# Altium schematic symbol library molex_connectors.SchLib: 12 symbols
Pins are listed as number, name and electrical type; pins without a type are passive.

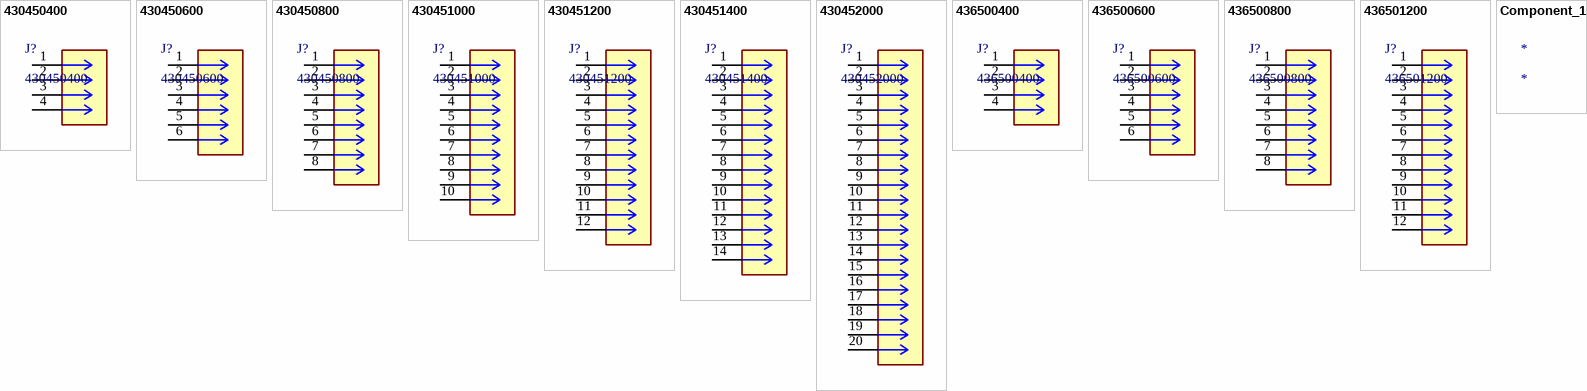
[diagram p0: symbols 430450400 to Component_1]

## 430450400
designator J?
Header 2 Row Right-Angle Snap-In Lock 4Pin Tin Plate SMT/Glow Wire Compatible; Mfr_Name: Molex Connector Corporation; Manufacturer: Molex; Manufacturer Part Number: 43045-0400; Number of Contacts: 4; Contact Resistance: 10mR; Max Voltage Rating (AC): 250V; Current Rating: 5A; Voltage Rating: 600V; Gender: Male; Max Voltage Rating (DC): 250.25kV; Pitch: 3mm; Row Spacing: 0.118inch; Approvals: UL,CSA,TUV; RefDes: RefDes; Type: Type; Supplier 1: Rs; Supplier Part Number 1: 2332955P; RoHS: Yes; Category: Headers and Wire Housings; Stock 1: 1243; Pricing 1: 5=311.042, 125=239.483, 500=194.095, 2500=152.386, 5000=142.436 (RUB); Mount: Through Hole; Contact Plating: Tin; Contact Material: Brass,Tin; Color: Black; Housing Color: Black; Housing Material: Thermoplastic; Material: Polyester; Min Operating Temperature: -40°C; Max Operating Temperature: 105°C; Number of Rows: 2; Termination: Solder; Packaging: Tray; Fastening Type: Ramp; Number of Positions: 4; Orientation: Right Angle; Contact Gender: Male; Series: Micro-Fit 3.0™ 43045; Contact Type: Male Pin; Number of Circuits: 4; Number of Poles: 4; Voltage Rating (AC): 250V; Working Voltage: 250V; Length: 10.15mm; Lead Pitch: 3mm; Depth: 12.2mm; Radiation Hardening: No; Flammability Rating: UL94 V-0; RoHS Compliant: Yes; Reach SVHC Compliant: Unknown; ComponentLink1URL: https://datasheet.ciiva.com/712/430450200-sd-712017.pdf?src-supplier=Digi-Key; ComponentLink1Description: https://datasheet.ciiva.com/712/430450200-sd-712017.pdf?src-supplier=Digi-Key; ComponentLink2URL: https://datasheet.ciiva.com/11746/0900766b80027348-11746988.pdf?src-supplier=Rs; ComponentLink2Description: https://datasheet.ciiva.com/11746/0900766b80027348-11746988.pdf?src-supplier=Rs; ComponentLink3URL: https://datasheet.ciiva.com/30193/145420430450400-pcb-headers-30193310.pdf?src-supplier=Onlinecomponents.com; ComponentLink3Description: https://datasheet.ciiva.com/30193/145420430450400-pcb-headers-30193310.pdf?src-supplier=Onlinecomponents.com
footprint 430450400-MFG
footprint 430450400
pins: 1, 2, 3, 4

## 430450600
designator J?
Connector Wire to Board Header 6 Position 3mm Solder Right Angle Thru-Hole Tray; Mfr_Name: Molex Connector Corporation; Manufacturer: Molex; Manufacturer Part Number: 43045-0600; Number of Contacts: 6; Contact Resistance: 10mR; Current Rating: 5A; Gender: Male; Voltage Rating (DC): 250V; Insulation Resistance: 1GR; Max Voltage Rating (DC): 250.25kV; Glow Wire Compliant: Compliant; Approvals: UL,CSA,TUV; RefDes: RefDes; Type: Type; Supplier 1: Rs; Supplier Part Number 1: 2332961P; RoHS: Yes; Category: Headers and Wire Housings; Stock 1: 8530; Pricing 1: 5=386.417, 100=332.987, 375=282.01, 1500=231.987, 3000=183.872 (RUB); Mount: Through Hole; Case/Package: SMC; Contact Plating: Tin; Contact Material: Brass,Tin; Housing Color: Black; Housing Material: Thermoplastic; Color: Black; Material: Polyester; Min Operating Temperature: -40°C; Max Operating Temperature: 105°C; Number of Rows: 2; Packaging: Tray; Termination: Solder; Orientation: Right Angle; Number of Positions: 6; Number of Circuits: 6; Voltage Rating: 250V; Package Quantity: 1728; Max Current Rating: 5A; Series: 43045; Diameter: 3mm; Length: 13.15mm; Height: 8.77mm; Pitch: 3mm; Depth: 12.2mm; Row Spacing: 3mm; Radiation Hardening: No; Flammability Rating: UL94 V-0; Halogen Free: Low Halogen; Lead Free: Lead Free; RoHS Compliant: Yes; Reach SVHC Compliant: Unknown; ComponentLink1URL: https://datasheet.ciiva.com/30225/179470430450600-pcb-headers-30225817.pdf?src-supplier=Onlinecomponents.com; ComponentLink1Description: https://datasheet.ciiva.com/30225/179470430450600-pcb-headers-30225817.pdf?src-supplier=Onlinecomponents.com; ComponentLink2URL: https://datasheet.ciiva.com/19461/883405-19461156.pdf?src-supplier=Jameco; ComponentLink2Description: https://datasheet.ciiva.com/19461/883405-19461156.pdf?src-supplier=Jameco; ComponentLink3URL: https://datasheet.ciiva.com/5147/0430450600-pcb-headers-143151-5147470.pdf?src-supplier=Mouser; ComponentLink3Description: https://datasheet.ciiva.com/5147/0430450600-pcb-headers-143151-5147470.pdf?src-supplier=Mouser; ComponentLink4URL: https://datasheet.ciiva.com/11747/0900766b80027348-11747530.pdf?src-supplier=Rs; ComponentLink4Description: https://datasheet.ciiva.com/11747/0900766b80027348-11747530.pdf?src-supplier=Rs; ComponentLink5URL: https://datasheet.ciiva.com/14155/04402310-14155205.pdf?src-supplier=Distrelec; ComponentLink5Description: https://datasheet.ciiva.com/14155/04402310-14155205.pdf?src-supplier=Distrelec; ComponentLink6URL: https://datasheet.ciiva.com/1443/1850013-1443456.pdf?src-supplier=Element14; ComponentLink6Description: https://datasheet.ciiva.com/1443/1850013-1443456.pdf?src-supplier=Element14; ComponentLink7URL: https://datasheet.ciiva.com/9468/0430450600-pcb-headers-9468489.pdf?src-supplier=Avnet; ComponentLink7Description: https://datasheet.ciiva.com/9468/0430450600-pcb-headers-9468489.pdf?src-supplier=Avnet
footprint 430450600-MFG
footprint 430450600
pins: 1, 2, 3, 4, 5, 6

## 430450800
designator J?
Connector Wire to Board Header 8 Position 3mm Solder Right Angle Thru-Hole Tray; Mfr_Name: Molex Connector Corporation; Manufacturer: Molex; Manufacturer Part Number: 43045-0800; Contact Resistance: 10mR; Number of Contacts: 8; Max Voltage Rating (DC): 250.25kV; Current Rating: 5A; Voltage Rating (AC): 250V; Voltage Rating: 600V; Gender: Male; Insulation Resistance: 1GR; Approvals: UL,CSA,TUV; Glow Wire Compliant: Compliant; RefDes: RefDes; Type: Type; Supplier 1: Rs; Supplier Part Number 1: 2332977; RoHS: Yes; Category: Headers and Wire Housings; Stock 1: 1875; Pricing 1: 5=518.222, 50=445.981, 100=376.467, 250=308.18, 500=242.755 (RUB); Mount: Through Hole; Case/Package: SMC; Contact Plating: Tin; Contact Material: Brass,Tin; Housing Color: Black; Housing Material: Thermoplastic; Color: Black; Material: Polyester; Min Operating Temperature: -40°C; Max Operating Temperature: 105°C; Number of Rows: 2; Termination: Solder; Packaging: Tray; Orientation: Right Angle; Number of Poles: 8; Package Quantity: 1440; Max Current Rating: 5A; Number of Positions: 8; Number of Circuits: 8; Working Voltage: 250V; Voltage Rating (DC): 250V; Series: 43045; Diameter: 3mm; Length: 16.15mm; Height: 8.77mm; Pitch: 3mm; Depth: 12.2mm; Row Spacing: 3mm; Radiation Hardening: No; Flammability Rating: UL94 V-0; RoHS Compliant: Yes; Halogen Free: Low Halogen; Lead Free: Lead Free; Reach SVHC Compliant: Unknown
footprint 430450800-MFG
footprint 430450800
pins: 1, 2, 3, 4, 5, 6, 7, 8

## 430451000
designator J?
Connector Wire to Board Header 10 Position 3mm Solder Right Angle Thru-Hole Tray; Mfr_Name: Molex Connector Corporation; Manufacturer: Molex; Manufacturer Part Number: 43045-1000; Connector Type: Power,Rectangular; Number of Positions: 10; Contact Resistance: 10mR; Gender: Male; Current Rating: 5A; Voltage Rating: 250V; Max Voltage Rating (DC): 250.25kV; Insulation Resistance: 1GR; Approvals: UL,CSA,TUV; Glow Wire Compliant: Compliant; RefDes: RefDes; Type: Type; Supplier 1: Rs; Supplier Part Number 1: 2332983P; RoHS: Yes; Category: Headers and Wire Housings; Stock 1: 5218; Pricing 1: 5=580.921, 100=444.891, 375=393.914, 1500=305.726, 3000=282.01 (RUB); Mount: Through Hole,PCB; Contact Plating: Tin; Color: Black; Contact Material: Brass,Tin; Housing Color: Black; Housing Material: Thermoplastic; Material: Polyester; Min Operating Temperature: -40°C; Max Operating Temperature: 105°C; Number of Rows: 2; Termination: Solder; Packaging: Tray; Package Quantity: 1224; Number of Contacts: 10; Series: 43045; Orientation: Right Angle; Max Current Rating: 5A; Number of Poles: 10; Voltage Rating (AC): 250V; Number of Circuits: 10; Working Voltage: 250V; Voltage Rating (DC): 250V; Diameter: 3mm; Length: 19.15mm; Height: 8.77mm; Pitch: 3mm; Depth: 12.2mm; Row Spacing: 3mm; Radiation Hardening: No; RoHS Compliant: Yes; Flammability Rating: UL94 V-0; Lead Free: Lead Free; Halogen Free: Low Halogen; Reach SVHC Compliant: Unknown; ComponentLink1URL: https://datasheet.ciiva.com/5150/0430451000-pcb-headers-143006-5150145.pdf?src-supplier=Mouser; ComponentLink1Description: https://datasheet.ciiva.com/5150/0430451000-pcb-headers-143006-5150145.pdf?src-supplier=Mouser; ComponentLink2URL: https://datasheet.ciiva.com/19461/883595-19461109.pdf?src-supplier=Jameco; ComponentLink2Description: https://datasheet.ciiva.com/19461/883595-19461109.pdf?src-supplier=Jameco; ComponentLink3URL: https://datasheet.ciiva.com/30068/153980430451000-pcb-headers-30068060.pdf?src-supplier=Onlinecomponents.com; ComponentLink3Description: https://datasheet.ciiva.com/30068/153980430451000-pcb-headers-30068060.pdf?src-supplier=Onlinecomponents.com; ComponentLink4URL: https://datasheet.ciiva.com/11749/0900766b80027348-11749233.pdf?src-supplier=Rs; ComponentLink4Description: https://datasheet.ciiva.com/11749/0900766b80027348-11749233.pdf?src-supplier=Rs; ComponentLink5URL: https://datasheet.ciiva.com/14155/04402310-14155207.pdf?src-supplier=Distrelec; ComponentLink5Description: https://datasheet.ciiva.com/14155/04402310-14155207.pdf?src-supplier=Distrelec; ComponentLink6URL: https://datasheet.ciiva.com/18454/70090797-18454139.pdf?src-supplier=Allied+Electronics; ComponentLink6Description: https://datasheet.ciiva.com/18454/70090797-18454139.pdf?src-supplier=Allied+Electronics; ComponentLink7URL: https://datasheet.ciiva.com/9468/0430451000-pcb-headers-9468495.pdf?src-supplier=Avnet; ComponentLink7Description: https://datasheet.ciiva.com/9468/0430451000-pcb-headers-9468495.pdf?src-supplier=Avnet
footprint 430451000
footprint 430451000-MFG
pins: 1, 2, 3, 4, 5, 6, 7, 8, 9, 10

## 430451200
designator J?
Connector Wire to Board Header 12 Position 3mm Solder Right Angle Thru-Hole Tray; Manufacturer: Molex; Manufacturer Part Number: 43045-1200; Contact Resistance: 10mR; Number of Contacts: 12; Current Rating: 5A; Voltage Rating (AC): 250V; Voltage Rating: 600V; Gender: Male; Max Voltage Rating (DC): 250.25kV; Approvals: UL,CSA,TUV; Glow Wire Compliant: Compliant; Supplier 1: Rs; Supplier Part Number 1: 2332999P; RoHS: Yes; Category: Headers and Wire Housings; Stock 1: 1228; Pricing 1: 5=631.353, 100=496.141, 375=430.307, 1500=347.026 (RUB); Mount: Through Hole; Contact Plating: Tin; Contact Material: Brass,Tin; Housing Color: Black; Housing Material: Thermoplastic; Color: Black; Material: Polyester; Min Operating Temperature: -40°C; Max Operating Temperature: 105°C; Number of Rows: 2; Termination: Solder; Packaging: Tray; Orientation: Right Angle; Package Quantity: 1008; Number of Positions: 12; Series: 43045; Number of Poles: 12; Max Current Rating: 5A; Number of Circuits: 12; Working Voltage: 250V; Diameter: 3mm; Length: 22.15mm; Height: 8.77mm; Pitch: 3mm; Depth: 12.2mm; Lead Pitch: 3mm; Row Spacing: 3mm; Radiation Hardening: No; Flammability Rating: UL94 V-0; RoHS Compliant: Yes; Halogen Free: Low Halogen; ComponentLink1URL: https://datasheet.ciiva.com/19462/883704-19462215.pdf?src-supplier=Jameco; ComponentLink1Description: https://datasheet.ciiva.com/19462/883704-19462215.pdf?src-supplier=Jameco; ComponentLink2URL: https://datasheet.ciiva.com/5147/0430451200-pcb-headers-228589-5147732.pdf?src-supplier=Mouser; ComponentLink2Description: https://datasheet.ciiva.com/5147/0430451200-pcb-headers-228589-5147732.pdf?src-supplier=Mouser; ComponentLink3URL: https://datasheet.ciiva.com/30260/219840430451200-pcb-headers-30260443.pdf?src-supplier=Onlinecomponents.com; ComponentLink3Description: https://datasheet.ciiva.com/30260/219840430451200-pcb-headers-30260443.pdf?src-supplier=Onlinecomponents.com; ComponentLink4URL: https://datasheet.ciiva.com/10084/0430451200-pcb-headers-10084081.pdf?src-supplier=Avnet; ComponentLink4Description: https://datasheet.ciiva.com/10084/0430451200-pcb-headers-10084081.pdf?src-supplier=Avnet; ComponentLink5URL: https://datasheet.ciiva.com/11747/0900766b800bd7d2-11747867.pdf?src-supplier=Rs; ComponentLink5Description: https://datasheet.ciiva.com/11747/0900766b800bd7d2-11747867.pdf?src-supplier=Rs; ComponentLink6URL: https://datasheet.ciiva.com/14155/04402310-14155208.pdf?src-supplier=Distrelec; ComponentLink6Description: https://datasheet.ciiva.com/14155/04402310-14155208.pdf?src-supplier=Distrelec; ComponentLink7URL: https://datasheet.ciiva.com/16710/70090929-16710806.pdf?src-supplier=Allied+Electronics; ComponentLink7Description: https://datasheet.ciiva.com/16710/70090929-16710806.pdf?src-supplier=Allied+Electronics; ComponentLink8URL: https://datasheet.ciiva.com/1443/1785782-1443553.pdf?src-supplier=Element14; ComponentLink8Description: https://datasheet.ciiva.com/1443/1785782-1443553.pdf?src-supplier=Element14
footprint 430451200
footprint 430451200-MFG
pins: 1, 2, 3, 4, 5, 6, 7, 8, 9, 10, 11, 12

## 430451400
designator J?
Header, 2 Row, Right-Angle, Snap-In Lock, 14 Pin, SMT/Glow Wire Compatible, Tin Plate; Mfr_Name: Molex Connector Corporation; Manufacturer: Molex; Manufacturer Part Number: 43045-1400; Contact Resistance: 10mR; Number of Contacts: 14; Current Rating: 5A; Max Voltage Rating (DC): 250.25kV; Voltage Rating: 600V; Gender: Male; Voltage Rating (AC): 250V; Connector Type: Plug; Insulation Resistance: 1GR; Pitch: 3mm; Approvals: UL,CSA,TUV; Glow Wire Compliant: Compliant; RefDes: RefDes; Type: Type; Supplier 1: Rs; Supplier Part Number 1: 4227423; RoHS: Yes; Category: Headers and Wire Housings; Stock 1: 365; Pricing 1: 5=859.523, 100=677.15, 375=581.466, 1500=474.06 (RUB); Mount: Through Hole; Contact Plating: Tin; Contact Material: Brass,Tin; Housing Material: Thermoplastic; Color: Black; Material: Polyester; Min Operating Temperature: -40°C; Max Operating Temperature: 105°C; Termination: Solder; Number of Rows: 2; Packaging: Tray; Orientation: Right Angle; Package Quantity: 936; Series: Micro-Fit 3.0; Number of Poles: 14; Contact Gender: Male; Number of Positions: 14; Number of Circuits: 14; Working Voltage: 250V; Voltage Rating (DC): 250V; Operating Supply Voltage: 250V; Lead Pitch: 3mm; Row Spacing: 3mm; Radiation Hardening: No; RoHS Compliant: Yes; Flammability Rating: UL94 V-0; Halogen Free: Low Halogen; Lead Free: Lead Free; ComponentLink1URL: https://datasheet.ciiva.com/19461/883780-19461140.pdf?src-supplier=Jameco; ComponentLink1Description: https://datasheet.ciiva.com/19461/883780-19461140.pdf?src-supplier=Jameco; ComponentLink2URL: https://datasheet.ciiva.com/5152/0430451400-pcb-headers-168267-5152857.pdf?src-supplier=Mouser; ComponentLink2Description: https://datasheet.ciiva.com/5152/0430451400-pcb-headers-168267-5152857.pdf?src-supplier=Mouser; ComponentLink3URL: https://datasheet.ciiva.com/30104/87550430451400-pcb-headers-30104672.pdf?src-supplier=Onlinecomponents.com; ComponentLink3Description: https://datasheet.ciiva.com/30104/87550430451400-pcb-headers-30104672.pdf?src-supplier=Onlinecomponents.com; ComponentLink4URL: https://datasheet.ciiva.com/1489/1632134-1489239.pdf?src-supplier=Newark; ComponentLink4Description: https://datasheet.ciiva.com/1489/1632134-1489239.pdf?src-supplier=Newark; ComponentLink5URL: https://datasheet.ciiva.com/10079/0430451400-pcb-headers-10079676.pdf?src-supplier=Avnet; ComponentLink5Description: https://datasheet.ciiva.com/10079/0430451400-pcb-headers-10079676.pdf?src-supplier=Avnet; ComponentLink6URL: https://datasheet.ciiva.com/11748/0900766b801ddde5-11748280.pdf?src-supplier=Rs; ComponentLink6Description: https://datasheet.ciiva.com/11748/0900766b801ddde5-11748280.pdf?src-supplier=Rs; ComponentLink7URL: https://datasheet.ciiva.com/14155/04402310-14155209.pdf?src-supplier=Distrelec; ComponentLink7Description: https://datasheet.ciiva.com/14155/04402310-14155209.pdf?src-supplier=Distrelec; ComponentLink8URL: https://datasheet.ciiva.com/22637/1632134-22637534.pdf?src-supplier=Element14; ComponentLink8Description: https://datasheet.ciiva.com/22637/1632134-22637534.pdf?src-supplier=Element14; ComponentLink9URL: https://datasheet.ciiva.com/7814/1596511-7814796.pdf?src-supplier=Element14; ComponentLink9Description: https://datasheet.ciiva.com/7814/1596511-7814796.pdf?src-supplier=Element14; ComponentLink10URL: https://datasheet.ciiva.com/1443/1785783-1443611.pdf?src-supplier=Element14; ComponentLink10Description: https://datasheet.ciiva.com/1443/1785783-1443611.pdf?src-supplier=Element14; ComponentLink11URL: https://datasheet.ciiva.com/6082/1632134-6082893.pdf?src-supplier=Farnell; ComponentLink11Description: https://datasheet.ciiva.com/6082/1632134-6082893.pdf?src-supplier=Farnell
footprint 430451400-MFG
footprint 430451400
pins: 1, 2, 3, 4, 5, 6, 7, 8, 9, 10, 11, 12, 13, 14

## 430452000
designator J?
Header, 2 Row, Right-Angle, Snap-In Lock, 20 Pin, SMT/Glow Wire Compatible, Tin Plate; Mfr_Name: Molex Connector Corporation; Manufacturer: Molex; Manufacturer Part Number: 43045-2000; Number of Positions: 20; Contact Resistance: 10mR; Current Rating: 5A; Voltage Rating: 600V; Voltage Rating (AC): 250V; Max Voltage Rating (DC): 250.25kV; Gender: Male; Insulation Resistance: 1GR; Pitch: 3mm; Approvals: UL,CSA,TUV; Glow Wire Compliant: Compliant; RefDes: RefDes; Type: Type; Supplier 1: Rs; Supplier Part Number 1: 6700532; RoHS: Yes; Category: Headers and Wire Housings; Stock 1: 310; Pricing 1: 5=1235.445, 100=974.835, 375=835.67, 1500=682.875, 3000=625.083 (RUB); Mount: Through Hole; Contact Plating: Tin; Contact Material: Brass,Tin; Color: Black; Housing Color: Black; Housing Material: Thermoplastic; Material: Polyester; Min Operating Temperature: -40°C; Max Operating Temperature: 105°C; Number of Rows: 2; Termination: Solder; Packaging: Tray; Series: 43045; Package Quantity: 648; Number of Contacts: 20; Orientation: Right Angle; Number of Poles: 20; Max Current Rating: 5A; Number of Circuits: 20; Working Voltage: 250V; Voltage Rating (DC): 250V; Operating Supply Voltage: 250V; Length: 34.15mm; Height: 8.77mm; Depth: 12.2mm; Lead Pitch: 3mm; Row Spacing: 3mm; Radiation Hardening: No; RoHS Compliant: Yes; Flammability Rating: UL94 V-0; Halogen Free: Low Halogen; Lead Free: Lead Free; ComponentLink1URL: https://datasheet.ciiva.com/5158/0430452000-pcb-headers-143029-5158912.pdf?src-supplier=Mouser; ComponentLink1Description: https://datasheet.ciiva.com/5158/0430452000-pcb-headers-143029-5158912.pdf?src-supplier=Mouser; ComponentLink2URL: https://datasheet.ciiva.com/19461/800067-19461036.pdf?src-supplier=Jameco; ComponentLink2Description: https://datasheet.ciiva.com/19461/800067-19461036.pdf?src-supplier=Jameco; ComponentLink3URL: https://datasheet.ciiva.com/30232/144790430452000-pcb-headers-30232337.pdf?src-supplier=Onlinecomponents.com; ComponentLink3Description: https://datasheet.ciiva.com/30232/144790430452000-pcb-headers-30232337.pdf?src-supplier=Onlinecomponents.com; ComponentLink4URL: https://datasheet.ciiva.com/11747/0900766b80d6135b-11747452.pdf?src-supplier=Rs; ComponentLink4Description: https://datasheet.ciiva.com/11747/0900766b80d6135b-11747452.pdf?src-supplier=Rs; ComponentLink5URL: https://datasheet.ciiva.com/14155/04402310-14155212.pdf?src-supplier=Distrelec; ComponentLink5Description: https://datasheet.ciiva.com/14155/04402310-14155212.pdf?src-supplier=Distrelec; ComponentLink6URL: https://datasheet.ciiva.com/1443/1786399-1443623.pdf?src-supplier=Element14; ComponentLink6Description: https://datasheet.ciiva.com/1443/1786399-1443623.pdf?src-supplier=Element14; ComponentLink7URL: https://datasheet.ciiva.com/10076/0430452000-pcb-headers-10076859.pdf?src-supplier=Avnet; ComponentLink7Description: https://datasheet.ciiva.com/10076/0430452000-pcb-headers-10076859.pdf?src-supplier=Avnet
footprint 430452000-MFG
footprint 430452000
pins: 1, 2, 3, 4, 5, 6, 7, 8, 9, 10, 11, 12, 13, 14, 15, 16, 17, 18, 19, 20

## 436500400
designator J?
Connector Wire to Board Header 4 Position 3mm Solder Right Angle Thru-Hole Tray; Mfr_Name: Molex Connector Corporation; Manufacturer: Molex; Manufacturer Part Number: 43650-0400; Current Rating: 5A; Voltage Rating: 600V; Contact Resistance: 10mR; Connector Type: Plug; Number of Positions: 4; Gender: Male; Voltage Rating (DC): 250V; Glow Wire Compliant: Compliant; RefDes: RefDes; Type: Type; Supplier 1: Rs; Supplier Part Number 1: 6704733P; RoHS: Yes; Category: Headers and Wire Housings; Stock 1: 1290; Pricing 1: 5=265.653 (RUB); Mount: Through Hole,Cable; Contact Material: Brass,Copper Alloy; Contact Plating: Tin; Housing Material: Thermoplastic; Color: Black; Housing Color: Black; Min Operating Temperature: -40°C; Max Operating Temperature: 105°C; Termination: Solder; Orientation: Right Angle; Packaging: Tray; Number of Rows: 1; Package Quantity: 2380; Number of Contacts: 4; Max Voltage Rating (AC): 600V; Number of Circuits: 4; Series: 43650; Length: 14.86mm; Height: 4.5mm; Pitch: 3mm; Depth: 3.6mm; Radiation Hardening: No; RoHS Compliant: Yes; Halogen Free: Low Halogen; Lead Free: Contains Lead; Flammability Rating: UL94 V-0; Reach SVHC Compliant: Unknown; ComponentLink1URL: https://datasheet.ciiva.com/19462/884184-19462234.pdf?src-supplier=Jameco; ComponentLink1Description: https://datasheet.ciiva.com/19462/884184-19462234.pdf?src-supplier=Jameco; ComponentLink2URL: https://datasheet.ciiva.com/5151/0436500400-pcb-headers-148663-5151881.pdf?src-supplier=Mouser; ComponentLink2Description: https://datasheet.ciiva.com/5151/0436500400-pcb-headers-148663-5151881.pdf?src-supplier=Mouser; ComponentLink3URL: https://datasheet.ciiva.com/16085/0436500400-pcb-headers-16085752.pdf?src-supplier=Onlinecomponents.com; ComponentLink3Description: https://datasheet.ciiva.com/16085/0436500400-pcb-headers-16085752.pdf?src-supplier=Onlinecomponents.com; ComponentLink4URL: https://datasheet.ciiva.com/11748/0900766b80d6135b-11748178.pdf?src-supplier=Rs; ComponentLink4Description: https://datasheet.ciiva.com/11748/0900766b80d6135b-11748178.pdf?src-supplier=Rs; ComponentLink5URL: https://datasheet.ciiva.com/30221/142510436500400-pcb-headers-30221164.pdf?src-supplier=Onlinecomponents.com; ComponentLink5Description: https://datasheet.ciiva.com/30221/142510436500400-pcb-headers-30221164.pdf?src-supplier=Onlinecomponents.com; ComponentLink6URL: https://datasheet.ciiva.com/17080/70266896-17080471.pdf?src-supplier=Allied+Electronics; ComponentLink6Description: https://datasheet.ciiva.com/17080/70266896-17080471.pdf?src-supplier=Allied+Electronics; ComponentLink7URL: https://datasheet.ciiva.com/7094/1946229-7094763.pdf?src-supplier=Newark; ComponentLink7Description: https://datasheet.ciiva.com/7094/1946229-7094763.pdf?src-supplier=Newark; ComponentLink8URL: https://datasheet.ciiva.com/9449/0436500400-pcb-headers-9449446.pdf?src-supplier=Avnet; ComponentLink8Description: https://datasheet.ciiva.com/9449/0436500400-pcb-headers-9449446.pdf?src-supplier=Avnet
footprint 436500400
footprint 436500400-MFG
pins: 1, 2, 3, 4

## 436500600
designator J?
Header, 1 Row, Right-Angle, Snap-In Lock, 6 Pin, SMT/Glow Wire Compatible, Tin Plate; Mfr_Name: Molex Connector Corporation; Manufacturer: Molex; Manufacturer Part Number: 43650-0600; Number of Contacts: 6; Current Rating: 5A; Voltage Rating: 600V; Connector Type: Power,Rectangular; Working Voltage: 250V; Gender: Male; Insulation Resistance: 1GR; Pitch: 3mm; RefDes: RefDes; Type: Type; Supplier 1: Rs; Supplier Part Number 1: 6704777P; RoHS: Yes; Category: Headers and Wire Housings; Stock 1: 285; Pricing 1: 5=409.589, 100=313.223 (RUB); Mount: PCB,Through Hole; Contact Material: Brass,Tin; Contact Plating: Tin; Housing Material: Thermoplastic; Housing Color: Black; Color: Black; Min Operating Temperature: -40°C; Max Operating Temperature: 105°C; Termination: Solder; Orientation: Right Angle; Number of Rows: 1; Packaging: Tray; Number of Poles: 6; Package Quantity: 1666; Number of Positions: 6; Voltage Rating (DC): 250V; Number of Circuits: 6; Series: 43650; Radiation Hardening: No; RoHS Compliant: Yes; Flammability Rating: UL94 V-0; ComponentLink1URL: https://datasheet.ciiva.com/5150/0436500600-pcb-headers-148811-5150554.pdf?src-supplier=Mouser; ComponentLink1Description: https://datasheet.ciiva.com/5150/0436500600-pcb-headers-148811-5150554.pdf?src-supplier=Mouser; ComponentLink2URL: https://datasheet.ciiva.com/34303/1931940-34303325.pdf?src-supplier=Jameco; ComponentLink2Description: https://datasheet.ciiva.com/34303/1931940-34303325.pdf?src-supplier=Jameco; ComponentLink3URL: https://datasheet.ciiva.com/30250/0436500600-pcb-headers-30250353.pdf?src-supplier=Onlinecomponents.com; ComponentLink3Description: https://datasheet.ciiva.com/30250/0436500600-pcb-headers-30250353.pdf?src-supplier=Onlinecomponents.com; ComponentLink4URL: https://datasheet.ciiva.com/11752/0900766b80d6135b-11752876.pdf?src-supplier=Rs; ComponentLink4Description: https://datasheet.ciiva.com/11752/0900766b80d6135b-11752876.pdf?src-supplier=Rs; ComponentLink5URL: https://datasheet.ciiva.com/1451/1499433-1451897.pdf?src-supplier=Farnell; ComponentLink5Description: https://datasheet.ciiva.com/1451/1499433-1451897.pdf?src-supplier=Farnell; ComponentLink6URL: https://datasheet.ciiva.com/14155/04402066-14155227.pdf?src-supplier=Distrelec; ComponentLink6Description: https://datasheet.ciiva.com/14155/04402066-14155227.pdf?src-supplier=Distrelec; ComponentLink7URL: https://datasheet.ciiva.com/1443/1499433-1443810.pdf?src-supplier=Element14; ComponentLink7Description: https://datasheet.ciiva.com/1443/1499433-1443810.pdf?src-supplier=Element14; ComponentLink8URL: https://datasheet.ciiva.com/16898/70091002-16898631.pdf?src-supplier=Allied+Electronics; ComponentLink8Description: https://datasheet.ciiva.com/16898/70091002-16898631.pdf?src-supplier=Allied+Electronics; ComponentLink9URL: https://datasheet.ciiva.com/9432/0436500600-pcb-headers-9432860.pdf?src-supplier=Avnet; ComponentLink9Description: https://datasheet.ciiva.com/9432/0436500600-pcb-headers-9432860.pdf?src-supplier=Avnet
footprint 436500600
footprint 436500600-MFG
pins: 1, 2, 3, 4, 5, 6

## 436500800
designator J?
Connector Header 8 Position 3 mm Solder Right Angle Thru-Hole 8 Terminal 1 Port Micro-Fit 3.0™; Mfr_Name: Molex Connector Corporation; Manufacturer: Molex; Manufacturer Part Number: 43650-0800; Gender: Male; Current Rating: 5A; Voltage Rating: 600V; Max Current Rating: 10A; Number of Positions: 8; Voltage Rating (DC): 250V; Insulation Resistance: 1GR; Pitch: 3mm; Contact Post Length: 3.18mm; Glow Wire Compliant: Compliant; RefDes: RefDes; Type: Type; Supplier 1: Rs; Supplier Part Number 1: 6704815; RoHS: Yes; Category: Headers and Wire Housings; Stock 1: 220; Pricing 1: 5=426.354, 100=325.626, 375=291.415, 1500=224.354, 3000=208.27 (RUB); Mount: Through Hole; Contact Material: Brass,Copper Alloy,Tin; Contact Plating: Tin; Color: Black; Housing Material: Liquid Crystal Polymer; Housing Color: White; Min Operating Temperature: -40°C; Max Operating Temperature: 105°C; Termination: Solder; Orientation: Right Angle; Number of Rows: 1; Packaging: Tray; Series: Micro-Fit 3.0; Contact Gender: Male; Number of Contacts: 8; Max Voltage Rating (AC): 600V; Number of Circuits: 8; Operating Supply Voltage: 250V; Height: 12.8mm; Radiation Hardening: No; RoHS Compliant: Yes; Halogen Free: Low Halogen; Reach SVHC Compliant: Unknown; ComponentLink1URL: https://datasheet.ciiva.com/11746/0900766b80d6135b-11746448.pdf?src-supplier=Rs; ComponentLink1Description: https://datasheet.ciiva.com/11746/0900766b80d6135b-11746448.pdf?src-supplier=Rs; ComponentLink2URL: https://datasheet.ciiva.com/27051/1300638-27051905.pdf?src-supplier=Jameco; ComponentLink2Description: https://datasheet.ciiva.com/27051/1300638-27051905.pdf?src-supplier=Jameco; ComponentLink3URL: https://datasheet.ciiva.com/30175/71670436500800-pcb-headers-30175067.pdf?src-supplier=Onlinecomponents.com; ComponentLink3Description: https://datasheet.ciiva.com/30175/71670436500800-pcb-headers-30175067.pdf?src-supplier=Onlinecomponents.com; ComponentLink4URL: https://datasheet.ciiva.com/5150/0436500800-pcb-headers-148820-5150790.pdf?src-supplier=Mouser; ComponentLink4Description: https://datasheet.ciiva.com/5150/0436500800-pcb-headers-148820-5150790.pdf?src-supplier=Mouser; ComponentLink5URL: https://datasheet.ciiva.com/16088/0436500800-pcb-headers-16088924.pdf?src-supplier=Onlinecomponents.com; ComponentLink5Description: https://datasheet.ciiva.com/16088/0436500800-pcb-headers-16088924.pdf?src-supplier=Onlinecomponents.com; ComponentLink6URL: https://datasheet.ciiva.com/7439/1626389-7439702.pdf?src-supplier=Newark; ComponentLink6Description: https://datasheet.ciiva.com/7439/1626389-7439702.pdf?src-supplier=Newark; ComponentLink7URL: https://datasheet.ciiva.com/14155/04402066-14155228.pdf?src-supplier=Distrelec; ComponentLink7Description: https://datasheet.ciiva.com/14155/04402066-14155228.pdf?src-supplier=Distrelec; ComponentLink8URL: https://datasheet.ciiva.com/1443/1824510-1443815.pdf?src-supplier=Element14; ComponentLink8Description: https://datasheet.ciiva.com/1443/1824510-1443815.pdf?src-supplier=Element14; ComponentLink9URL: https://datasheet.ciiva.com/1443/1499433-1443816.pdf?src-supplier=Element14; ComponentLink9Description: https://datasheet.ciiva.com/1443/1499433-1443816.pdf?src-supplier=Element14
footprint 436500800-MFG
footprint 436500800
pins: 1, 2, 3, 4, 5, 6, 7, 8

## 436501200
designator J?
Conn Power HDR 12 POS 3mm Solder RA Thru-Hole 12 Terminal 1 Port Micro-Fit 3.0™ Frame; Mfr_Name: Molex Connector Corporation; Manufacturer: Molex; Manufacturer Part Number: 43650-1200; Number of Contacts: 12; Gender: Male; Voltage Rating: 600V; Current Rating: 5A; Insulation Resistance: 1GR; Glow Wire Compliant: Compliant; RefDes: RefDes; Type: Type; Supplier 1: Farnell; Supplier Part Number 1: 3049156; RoHS: Yes; Category: Headers and Wire Housings; Stock 1: 154; Pricing 1: 1=2.87, 10=2.22, 100=2.06, 250=1.88, 500=1.7, 1000=1.67 (EUR); Mount: Through Hole; Contact Plating: Tin; Contact Material: Brass,Tin; Housing Material: Thermoplastic; Color: Black; Housing Color: Black; Min Operating Temperature: -40°C; Max Operating Temperature: 105°C; Termination: Solder; Number of Rows: 1; Packaging: Tray; Orientation: Right Angle; Package Quantity: 1; Fastening Type: Ramp; Number of Positions: 12; Number of Circuits: 12; Series: Micro-Fit 3.0™ 43650; Contact Type: Male Pin; Pitch: 3mm; RoHS Compliant: Yes; Halogen Free: Low Halogen; Flammability Rating: UL94 V-0; ComponentLink1URL: https://datasheet.ciiva.com/713/436500501-sd-713883.pdf?src-supplier=Digi-Key; ComponentLink1Description: https://datasheet.ciiva.com/713/436500501-sd-713883.pdf?src-supplier=Digi-Key; ComponentLink2URL: https://datasheet.ciiva.com/30240/0436501200-pcb-headers-30240499.pdf?src-supplier=Onlinecomponents.com; ComponentLink2Description: https://datasheet.ciiva.com/30240/0436501200-pcb-headers-30240499.pdf?src-supplier=Onlinecomponents.com; ComponentLink3URL: https://datasheet.ciiva.com/5150/0436501200-pcb-headers-168537-5150117.pdf?src-supplier=Mouser; ComponentLink3Description: https://datasheet.ciiva.com/5150/0436501200-pcb-headers-168537-5150117.pdf?src-supplier=Mouser; ComponentLink4URL: https://datasheet.ciiva.com/16086/1031430436501200-pcb-headers-16086097.pdf?src-supplier=Onlinecomponents.com; ComponentLink4Description: https://datasheet.ciiva.com/16086/1031430436501200-pcb-headers-16086097.pdf?src-supplier=Onlinecomponents.com; ComponentLink5URL: https://datasheet.ciiva.com/14155/04402066-14155230.pdf?src-supplier=Distrelec; ComponentLink5Description: https://datasheet.ciiva.com/14155/04402066-14155230.pdf?src-supplier=Distrelec
footprint 436501200
footprint 436501200-MFG
pins: 1, 2, 3, 4, 5, 6, 7, 8, 9, 10, 11, 12

## Component_1
designator *